# Altium footprint library LEDM2214X140N.PcbLib: 1 footprints
Each footprint in its own frame and in the unit in brackets; x right, y up, seen from the top. Pads: shape width x height; smd on the part's side, far side on the other; paste and mask are expansions set on the pad; w line width, h text height; cw(c..) or ccw(c..) is an arc to the next point about the centre after c.
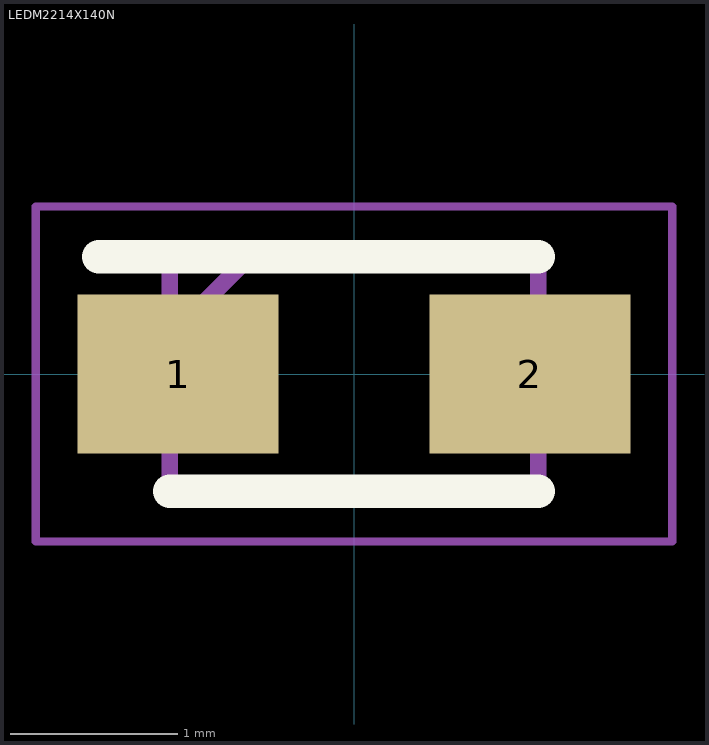
[diagram p0: the footprint, top view; thin cyan lines are the x and y axes]

## LEDM2214X140N [mm]
pads (2):
  rect 1.2x0.95 smd: 1(-1.05,0) 2(1.05,0)
Top Overlay:
  lines w0.2: -1.525,0.7 1.1,0.7 ; -1.1,-0.7 1.1,-0.7
Mechanical 15:
  lines w0.1: -1.1,0.225 -0.625,0.7 ; -1.1,-0.7 1.1,-0.7 1.1,0.7 -1.1,0.7 -1.1,-0.7
Mechanical 20:
  lines w0.05: -1.9,-1 1.9,-1 1.9,1 -1.9,1 -1.9,-1